# EAGLE library part AU6371 (library bontor)
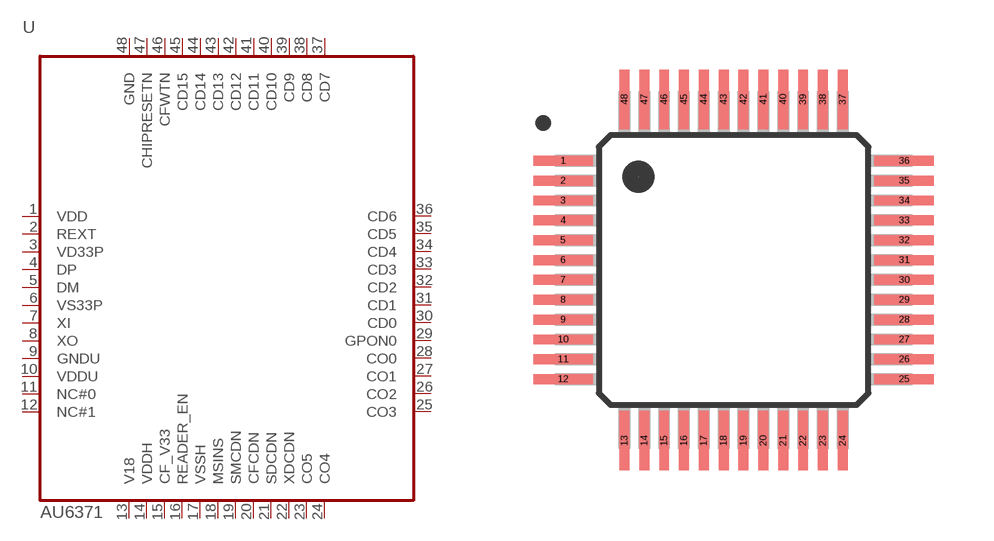
[diagram p6: symbol with the pads of LQFP48; footprint LQFP48]

Designator prefix -

## AU6371  [LQFP48]
1  VDD
2  REXT
3  VD33P
4  DP
5  DM
6  VS33P
7  XI
8  XO
9  GNDU
10  VDDU
11  NC#0
12  NC#1
13  V18
14  VDDH
15  CF_V33
16  READER_EN
17  VSSH
18  MSINS
19  SMCDN
20  CFCDN
21  SDCDN
22  XDCDN
23  CO5
24  CO4
25  CO3
26  CO2
27  CO1
28  CO0
29  GPON0
30  CD0
31  CD1
32  CD2
33  CD3
34  CD4
35  CD5
36  CD6
37  CD7
38  CD8
39  CD9
40  CD10
41  CD11
42  CD12
43  CD13
44  CD14
45  CD15
46  CFWTN
47  CHIPRESETN
48  GND

## Footprint LQFP48 (pad centres in mm)
smd 1.5 x 0.25: 1 -4.3,2.75; 2 -4.3,2.25; 3 -4.3,1.75; 4 -4.3,1.25; 5 -4.3,0.75; 6 -4.3,0.25; 7 -4.3,-0.25; 8 -4.3,-0.75; 9 -4.3,-1.25; 10 -4.3,-1.75; 11 -4.3,-2.25; 12 -4.3,-2.75; 25 4.3,-2.75; 26 4.3,-2.25; 27 4.3,-1.75; 28 4.3,-1.25; 29 4.3,-0.75; 30 4.3,-0.25; 31 4.3,0.25; 32 4.3,0.75; 33 4.3,1.25; 34 4.3,1.75; 35 4.3,2.25; 36 4.3,2.75
smd 0.25 x 1.5: 13 -2.75,-4.3; 14 -2.25,-4.3; 15 -1.75,-4.3; 16 -1.25,-4.3; 17 -0.75,-4.3; 18 -0.25,-4.3; 19 0.25,-4.3; 20 0.75,-4.3; 21 1.25,-4.3; 22 1.75,-4.3; 23 2.25,-4.3; 24 2.75,-4.3; 37 2.75,4.3; 38 2.25,4.3; 39 1.75,4.3; 40 1.25,4.3; 41 0.75,4.3; 42 0.25,4.3; 43 -0.25,4.3; 44 -0.75,4.3; 45 -1.25,4.3; 46 -1.75,4.3; 47 -2.25,4.3; 48 -2.75,4.3